# Altium footprint library Miscellaneous Header.PcbLib: 29 footprints (part 2 of 2)
Each footprint in its own frame and in the unit in brackets; x right, y up, seen from the top. Pads: shape width x height; smd on the part's side, far side on the other; paste and mask are expansions set on the pad; w line width, h text height; cw(c..) or ccw(c..) is an arc to the next point about the centre after c.
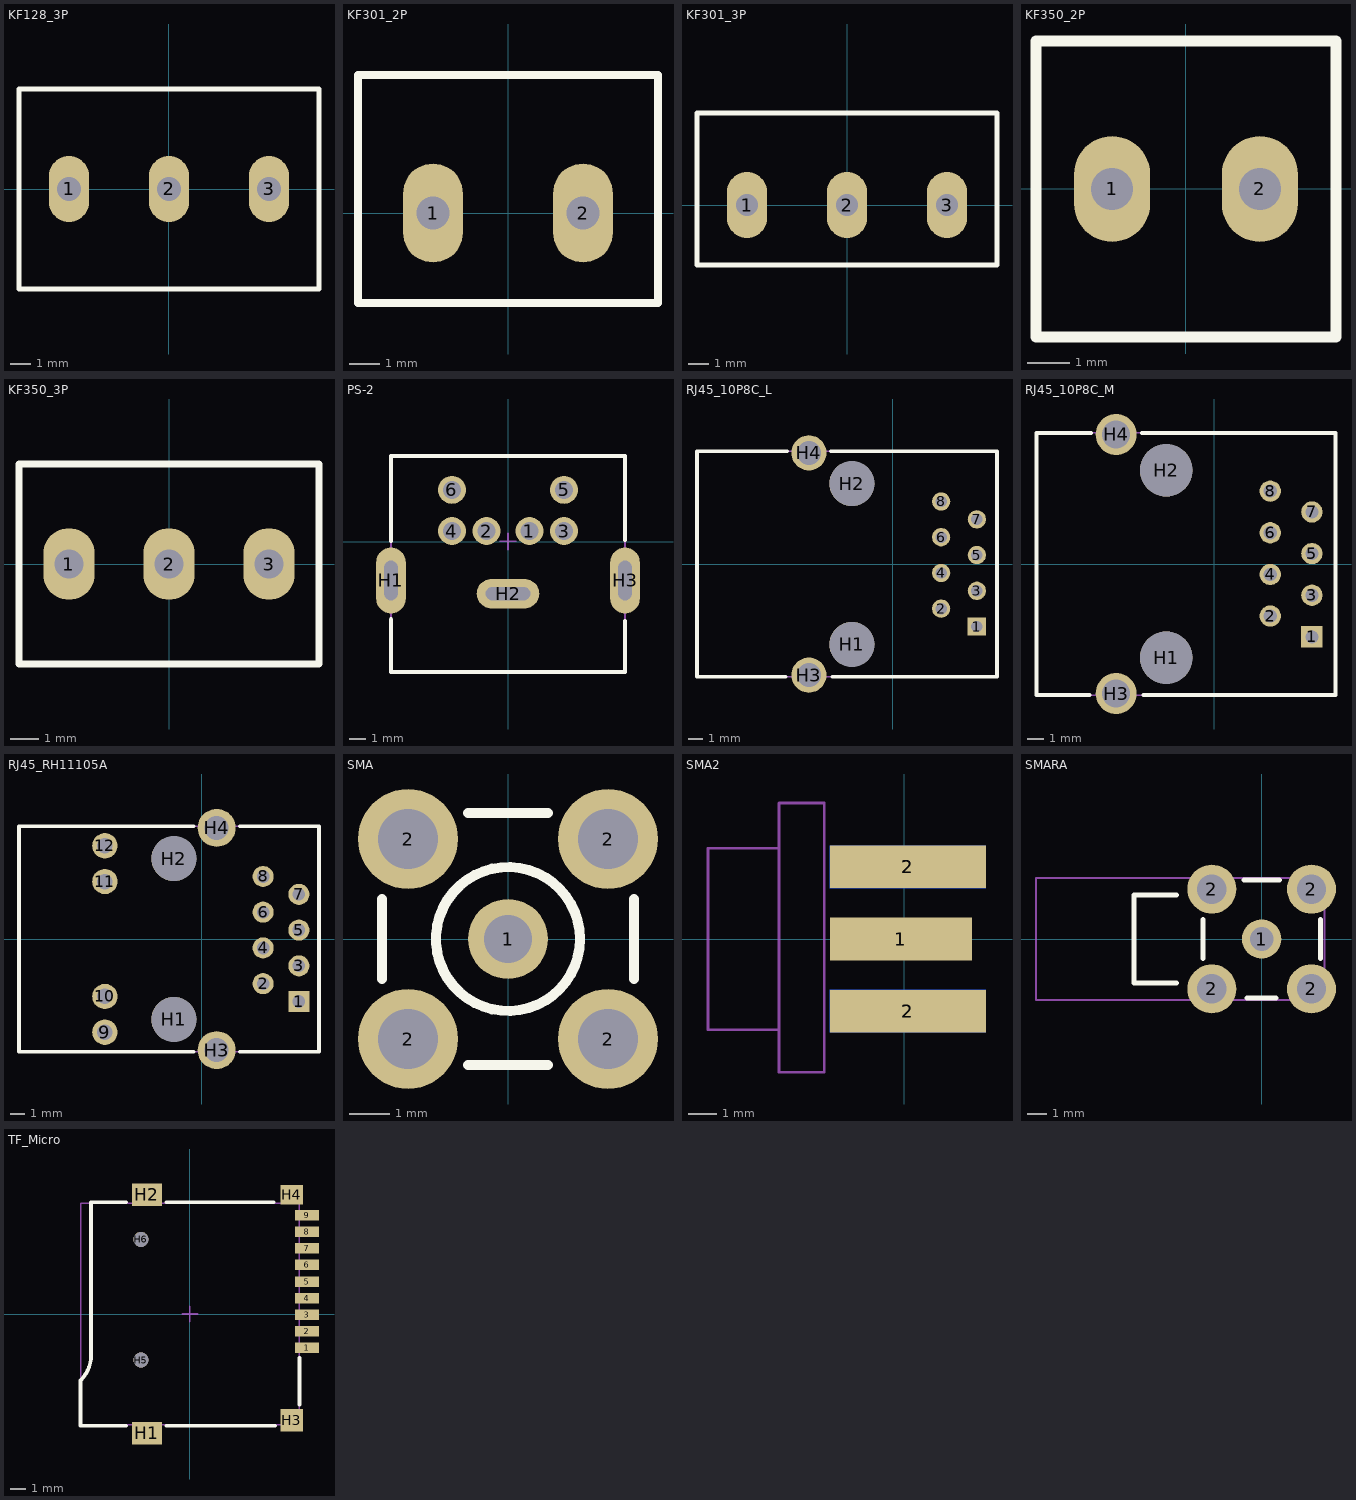
[diagram p1: the footprints below, top view; thin cyan lines are the x and y axes]

## KF128_3P [mm]
pads (3):
  oval 2x3.3 hole 1.2: 1(-5,0) 2(0,0) 3(5,0)
Top Overlay:
  lines w0.254: -7.5,-5 -7.5,5 7.5,5 7.5,-5 -7.5,-5
Mechanical 15:
  lines w0.1: -7.5,-5 -7.5,5 7.5,5 7.5,-5 -7.5,-5
3D body "DG128-5.08-3P.STEP": height 14.1, standoff -4.18, extent -8,-5.1 7.74,4.9

## KF301_2P [mm]
pads (2):
  oval 2x3.3 hole 1.1: 1(-2.5,0) 2(2.5,0)
Top Overlay:
  lines w0.254: -5,-3 -5,4.6 5,4.6 5,-3 -5,-3
Mechanical 15:
  lines w0.1: -5,-3 -5,4.6 5,4.6 5,-3 -5,-3
3D body "Header-KF301-2.STEP": height 10.1, standoff -2.9, extent -5.6,-3 5,4.6

## KF301_3P [mm]
pads (3):
  oval 2x3.3 hole 1.1: 1(-5,0) 2(0,0) 3(5,0)
Top Overlay:
  lines w0.254: -7.5,-3 7.5,-3 7.5,4.6 -7.5,4.6 -7.5,-3
Mechanical 15:
  lines w0.1: -7.5,-3 7.5,-3 7.5,4.6 -7.5,4.6 -7.5,-3
3D body "Header-KF301-3.STEP": height 10.5, standoff -2.5, extent -8.1,-3 7.5,4.6

## KF350_2P [mm]
pads (2):
  oval 1.8x2.5 hole 1: 1(-1.75,0) 2(1.75,0)
Top Overlay:
  lines w0.254: -3.55,-3.5 -3.55,3.5 3.55,3.5 3.55,-3.5 -3.55,-3.5
Mechanical 15:
  lines w0.1: -3.5,-3.5 3.5,-3.5 3.5,3.5 -3.5,3.5 -3.5,-3.5
3D body "Header-KF350-3.5-2.STEP": height 8.4, standoff -2.9, extent -3.7,-2.9 3.5,2.9

## KF350_3P [mm]
pads (3):
  oval 1.8x2.5 hole 1: 1(-3.5,0) 2(0,0) 3(3.5,0)
Top Overlay:
  lines w0.254: -5.25,-3.5 -5.25,3.5 5.25,3.5 5.25,-3.5 -5.25,-3.5
Mechanical 15:
  lines w0.1: -5.25,-3.5 5.25,-3.5 5.25,3.5 -5.25,3.5 -5.25,-3.5
3D body "Header-KF350-3.5-3.STEP": height 8.4, standoff -2.9, extent -5.45,-2.9 5.25,2.9

## PS-2 [mm]
pads (9):
  round 1.7 hole 1.1: 1(1.3,0.65) 2(-1.3,0.65) 3(3.4,0.65) 4(-3.4,0.65) 5(3.4,3.15) 6(-3.4,3.15)
  oval 1.8x4 hole 0.8 slot 2.4 at 90 deg: H1(-7.1,-2.35) H3(7.1,-2.35)
  oval 3.8x1.8 hole 0.8 slot 2.7 at 0 deg: H2(0,-3.15)
Top Overlay:
  lines w0.254: -7.1,-4.7 -7.1,-7.9 7.1,-7.9 7.1,-4.8 ; -7.1,0.048 -7.1,5.2 7.1,5.2 7.1,0.1
Mechanical 15:
  lines w0.1: -0.5,0.025 0.5,0.025 ; 0,-0.475 0,0.525 ; -7.1,-7.9 -7.1,5.2 7.1,5.2 7.1,-7.9 -7.1,-7.9
3D body "PS2 6PIN-2.STEP": height 12.5, standoff -3.8, extent -7.17,-7.874 7.17,5.226

## RJ45_10P8C_L [mm]
pads (12):
  rect 1.3x1.3 hole 0.8: 1(5.97,-4.445)
  round 1.3 hole 0.8: 2(3.43,-3.175) 3(5.97,-1.905) 4(3.43,-0.635) 5(5.97,0.635) 6(3.43,1.905) 7(5.97,3.175) 8(3.43,4.445)
  round 3.2 hole 3.2: H1(-2.92,-5.715) H2(-2.92,5.715)
  round 2.5 hole 1.7: H3(-5.97,-7.9) H4(-5.97,7.9)
Top Overlay:
  lines w0.254: -7.6,-8 -13.92,-8 -13.92,8 -7.5,8 ; -4.4,8 7.4,8 7.4,-8 -4.3,-8
Mechanical 15:
  lines w0.1: -13.92,-8 7.38,-8 7.38,8 -13.92,8 -13.92,-8
3D body "HanRun-HR911105A.STEP": height 13.5, standoff -3, extent -13.82,-7.94 7.58,7.94

## RJ45_10P8C_M [mm]
pads (12):
  rect 1.3x1.3 hole 0.8: 1(5.97,-4.445)
  round 1.3 hole 0.8: 2(3.43,-3.175) 3(5.97,-1.905) 4(3.43,-0.635) 5(5.97,0.635) 6(3.43,1.905) 7(5.97,3.175) 8(3.43,4.445)
  round 3.2 hole 3.2: H1(-2.92,-5.715) H2(-2.92,5.715)
  round 2.5 hole 1.7: H3(-5.97,-7.9) H4(-5.97,7.9)
Top Overlay:
  lines w0.254: -7.6,-8 -10.82,-8 -10.82,8 -7.5,8 ; -4.4,8 7.4,8 7.4,-8 -4.3,-8
Mechanical 15:
  lines w0.1: -10.82,-8 7.38,-8 7.38,8 -10.82,8 -10.82,-8
3D body "RJ45 10P8C.step": height 13.98, standoff -3.68, extent -11.035,-7.7 7.635,7.7

## RJ45_RH11105A [mm]
pads (16):
  rect 1.5x1.5 hole 0.9: 1(6.895,-4.445)
  round 1.5 hole 0.9: 2(4.355,-3.175) 3(6.895,-1.905) 4(4.355,-0.635) 5(6.895,0.635) 6(4.355,1.905) 7(6.895,3.175) 8(4.355,4.445)
  round 1.8 hole 1.1: 9(-6.895,-6.625) 10(-6.895,-4.085) 11(-6.895,4.085) 12(-6.895,6.625)
  round 3.2 hole 3.2: H1(-1.995,-5.715) H2(-1.995,5.715)
  round 2.7 hole 1.7: H3(1.055,-7.9) H4(1.055,7.9)
Top Overlay:
  lines w0.254: -0.595,-8 -12.995,-8 -12.995,8 -0.595,8 ; 2.705,-8 8.325,-8 8.325,8 2.705,8
Mechanical 15:
  lines w0.1: -12.995,-8 -12.995,8 8.305,8 8.305,-8 -12.995,-8
3D body "HanRun-HR911105A.STEP": height 13.5, standoff -3, extent -12.895,-7.94 8.505,7.94

## SMA [mm]
pads (5):
  round 2 hole 1.2: 1(0,0)
  round 2.5 hole 1.5: 2(-2.5,-2.5) 2(-2.5,2.5) 2(2.5,-2.5) 2(2.5,2.5)
Top Overlay:
  circle w0.254: c0,0 r1.8
  lines w0.254: -3.15,-1 -3.15,1 ; -1,-3.15 1,-3.15 ; -1,3.15 1,3.15 ; 3.15,-1 3.15,1
Mechanical 1:
  circle w0.025: c0,0 r1.8
3D body "User Library-sma.step": height 9.65, standoff -3.8, extent -3.155,-3.15 3.155,3.16

## SMA2 [mm]
pads (5):
  rect 5x1.5 smd: 1(-0.125,0)
  rect 5.5x1.5 smd: 2(0.125,-2.54) 2(0.125,2.54)
  rect 5.5x1.5 smd far side: 2(0.125,-2.54) 2(0.125,2.54)
Mechanical 15:
  lines w0.1: -4.425,-3.2 -6.925,-3.2 -6.925,3.2 -4.425,3.2 ; -4.425,-4.7 -2.825,-4.7 -2.825,4.8 -4.425,4.8 -4.425,-4.7
3D body "SMA - 50 Ohm.STEP": height 4.4, standoff -3.52, extent -12.16,-4.7 2.11,4.82

## SMARA [mm]
pads (5):
  round 2 hole 1.2: 1(0,0)
  round 2.5 hole 1.5: 2(-2.54,-2.54) 2(-2.54,2.54) 2(2.54,-2.54) 2(2.54,2.54)
Top Overlay:
  lines w0.254: -4.34,-2.25 -6.5,-2.25 -6.5,2.25 -4.34,2.25 ; -3,-1 -3,1 ; -0.9,3 0.9,3 ; -0.74,-3 0.74,-3 ; 3,-1 3,1
Mechanical 15:
  lines w0.1: -11.5,-3.1 -11.5,3.1 3.2,3.1 3.2,-3.1 -11.5,-3.1
3D body "SMARA.step": height 9.55, standoff -3.94, extent -11.608,-3.15 3.2,3.2

## TF_Micro [mm]
pads (15):
  rect 1.6x0.7 smd: 1(7.75,-2.25) 2(7.75,-1.15) 3(7.75,-0.05) 4(7.75,1.05) 5(7.75,2.15) 6(7.75,3.25) 7(7.75,4.35) 8(7.75,5.45) 9(7.75,6.55)
  rect 2x1.5 smd: H1(-2.85,-7.9) H2(-2.85,7.9)
  rect 1.5x1.5 smd: H3(6.75,-7.05)
  rect 1.5x1.3 smd: H4(6.75,7.9)
  round 1 hole 1: H5(-3.25,-3.05) H6(-3.25,4.95)
Top Overlay:
  lines w0.254: -4.25,-7.4 -7.25,-7.4 -7.25,-4.4 ccw(c-8.94,-2.71) -6.55,-2.71 -6.55,-1.9 -6.55,7.4 -4.25,7.4 ; -1.55,-7.4 5.65,-7.4 ; -1.55,7.4 5.55,7.4 ; 7.25,-6 7.25,-2.9
Mechanical 15:
  lines w0.1: -0.5,0 0.5,0 ; 0,-0.5 0,0.5 ; -7.25,-7.35 -7.25,7.35 7.25,7.35 7.25,-7.35 -7.25,-7.35
3D body "Micro SD_Push.STEP": height 1.97, standoff -0.5, extent -7.24,-8.253 7.97,8.053